# EAGLE library part 632723300011 (library spectrometer)
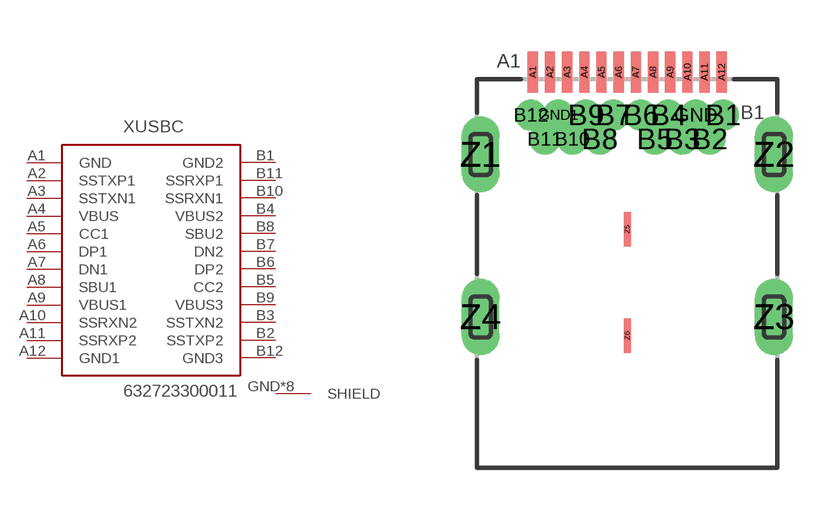
[diagram p0: symbol with the pads of USBC_HORZONTAL_WE; footprint USBC_HORZONTAL_WE]

Designator prefix X; gates USBC=632723X00011 G$2=SHIELD

## 632723300011THT  [USBC_HORZONTAL_WE]
A1  USBC:GND
A2  USBC:SSTXP1
A3  USBC:SSTXN1
A4  USBC:VBUS
A5  USBC:CC1
A6  USBC:DP1
A7  USBC:DN1
A8  USBC:SBU1
A9  USBC:VBUS1
A10  USBC:SSRXN2
A11  USBC:SSRXP2
A12  USBC:GND1
B1  USBC:GND2
B2  USBC:SSTXP2
B3  USBC:SSTXN2
B4  USBC:VBUS2
B5  USBC:CC2
B6  USBC:DP2
B7  USBC:DN2
B8  USBC:SBU2
B9  USBC:VBUS3
B10  USBC:SSRXN1
B11  USBC:SSRXP1
B12  USBC:GND3
GND  G$2:SHIELD
GND1  G$2:SHIELD
Z1  G$2:SHIELD
Z2  G$2:SHIELD
Z3  G$2:SHIELD
Z4  G$2:SHIELD
Z5  G$2:SHIELD
Z6  G$2:SHIELD

## Footprint USBC_HORZONTAL_WE (pad centres in mm)
USB 3.1 TYPE C RECEPTACLE - HORIZONTAL THT/SMT
smd 0.3 x 1.2: A1 2.262,11.785; A2 2.762,11.785; A3 3.262,11.785; A4 3.762,11.785; A5 4.262,11.785; A6 4.762,11.785; A7 5.262,11.785; A8 5.762,11.785; A9 6.262,11.785; A10 6.762,11.785; A11 7.262,11.785; A12 7.762,11.785
drill 0.4 pad 0.65: B1 7.812,10.535; B2 7.412,9.835; B3 6.612,9.835; B4 6.212,10.535; B5 5.812,9.835; B6 5.412,10.535; B7 4.612,10.535; B8 4.212,9.835; B9 3.812,10.535; B10 3.412,9.835; B11 2.612,9.835; B12 2.212,10.535; GND 7.012,10.535; GND1 3.012,10.535
drill 0.6 pad 1 long: Z1 0.742,9.385; Z2 9.282,9.385; Z3 9.282,4.655; Z4 0.742,4.655
smd 0.2 x 1: Z5 5.012,7.205; Z6 5.012,4.105